# Altium footprint library LOGO.PcbLib: 8 footprints
Each footprint in its own frame and in the unit in brackets; x right, y up, seen from the top. Pads: shape width x height; smd on the part's side, far side on the other; paste and mask are expansions set on the pad; w line width, h text height; cw(c..) or ccw(c..) is an arc to the next point about the centre after c.
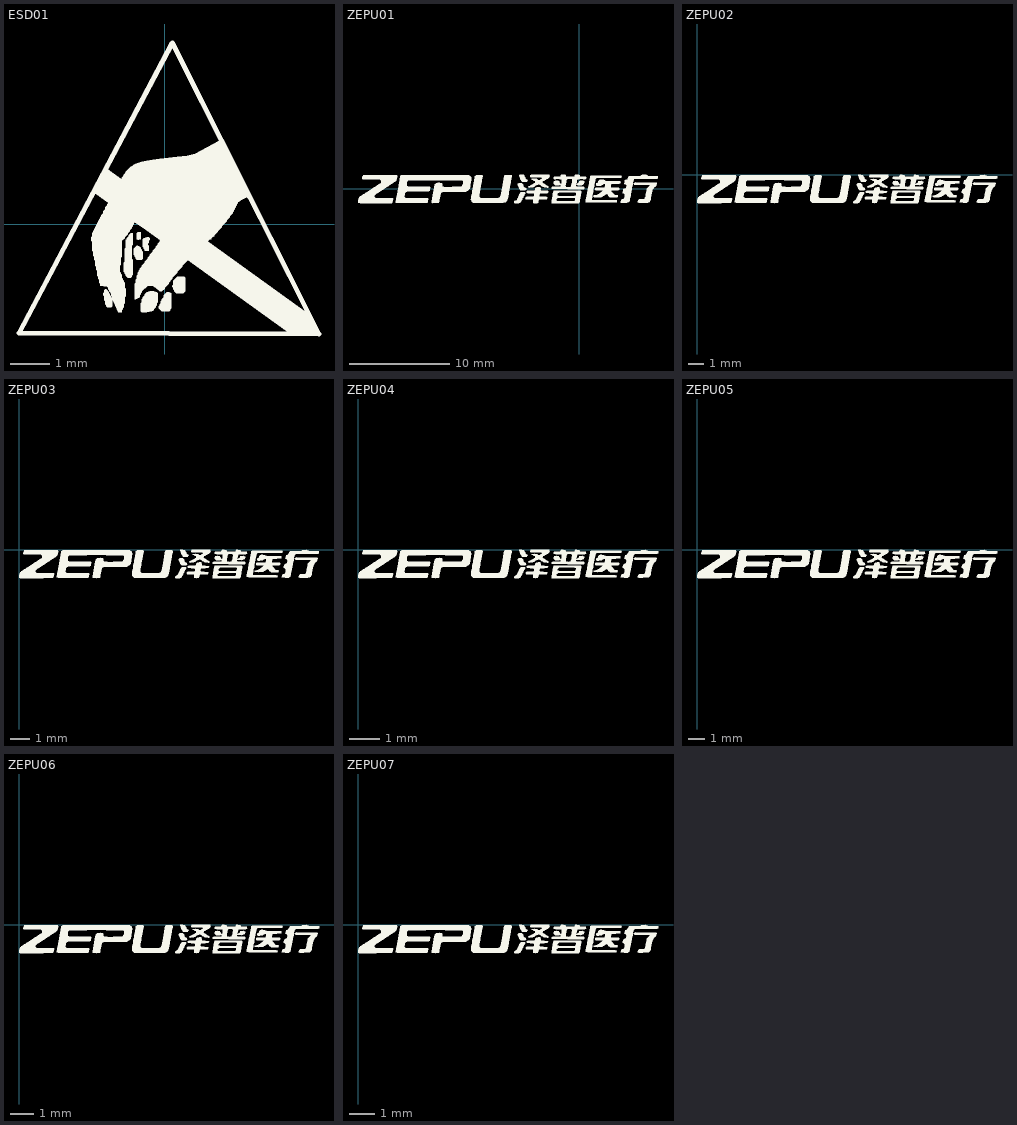
[diagram p0: the footprints below, top view; thin cyan lines are the x and y axes]

## ESD01 [mm]
height 0.5
Top Overlay:
  drawing of 14 lines, arcs and shapes, not listed

## ZEPU01 [mm]
height 0.5
Top Overlay:
  drawing of 15 lines, arcs and shapes, not listed

## ZEPU02 [mm]
Top Overlay:
  drawing of 15 lines, arcs and shapes, not listed

## ZEPU03 [mm]
Top Overlay:
  drawing of 15 lines, arcs and shapes, not listed

## ZEPU04 [mm]
Top Overlay:
  drawing of 15 lines, arcs and shapes, not listed

## ZEPU05 [mm]
Top Overlay:
  drawing of 15 lines, arcs and shapes, not listed

## ZEPU06 [mm]
Top Overlay:
  drawing of 15 lines, arcs and shapes, not listed

## ZEPU07 [mm]
Top Overlay:
  drawing of 15 lines, arcs and shapes, not listed